# Altium schematic symbol library Components - 13.04.21 - 14.18.SchLib: 1 symbol
Pins are listed as number, name and electrical type; pins without a type are passive.

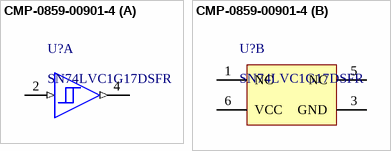
[diagram p0: symbol CMP-0859-00901-4]

## CMP-0859-00901-4
designator U?, comment SN74LVC1G17DSFR
Single Schmitt-Trigger Buffer, DSF0006A, LARGE T&R; Manufacturer: Texas Instruments; 3-State Output: No; Output Drive (IOL/IOH)(Max)(mA): 32/-32; tpd @ Nom Voltage(Max)(ns): 11,6.5,5.5,5; VCC(Max)(V): 5.5; Bits(#): 1; Rating: Catalog; VCC(Min)(V): 1.65; Voltage(Nom)(V): 1.8,2.5,3.3,5; Sub-Family: Non-Inverting Buffer/Driver; Input Type: CMOS/TTL; Output Type: CMOS; F @ Nom Voltage(Max)(Mhz): 150; Technology Family: LVC; Schmitt Trigger: Yes; Logic: True; ICC @ Nom Voltage(Max)(mA): 0.01; PackageReference: DSF0006A; DatasheetVersion: SCES351V; Generic Part Number: SN74LVC1G17; Operating Temperature Range(C): -40 to 125,-40 to 85
footprint DSF0006A_V (SON, 6-Leads, Body 1x1mm, Pitch 0.35mm, TI Recommend)
part A pins: 2 A (in) "Input", 4 Y (out) "Output"
part B pins: 1 NC "Not connected", 3 GND (power) "Ground", 5 NC "Not connected", 6 VCC (power) "Power pin"